# EAGLE library part SSW-140-02-S-T (library con-samtec)
THROUGH-HOLE .025" SQ POST SOCKET Source: Samtec SSW.pdf
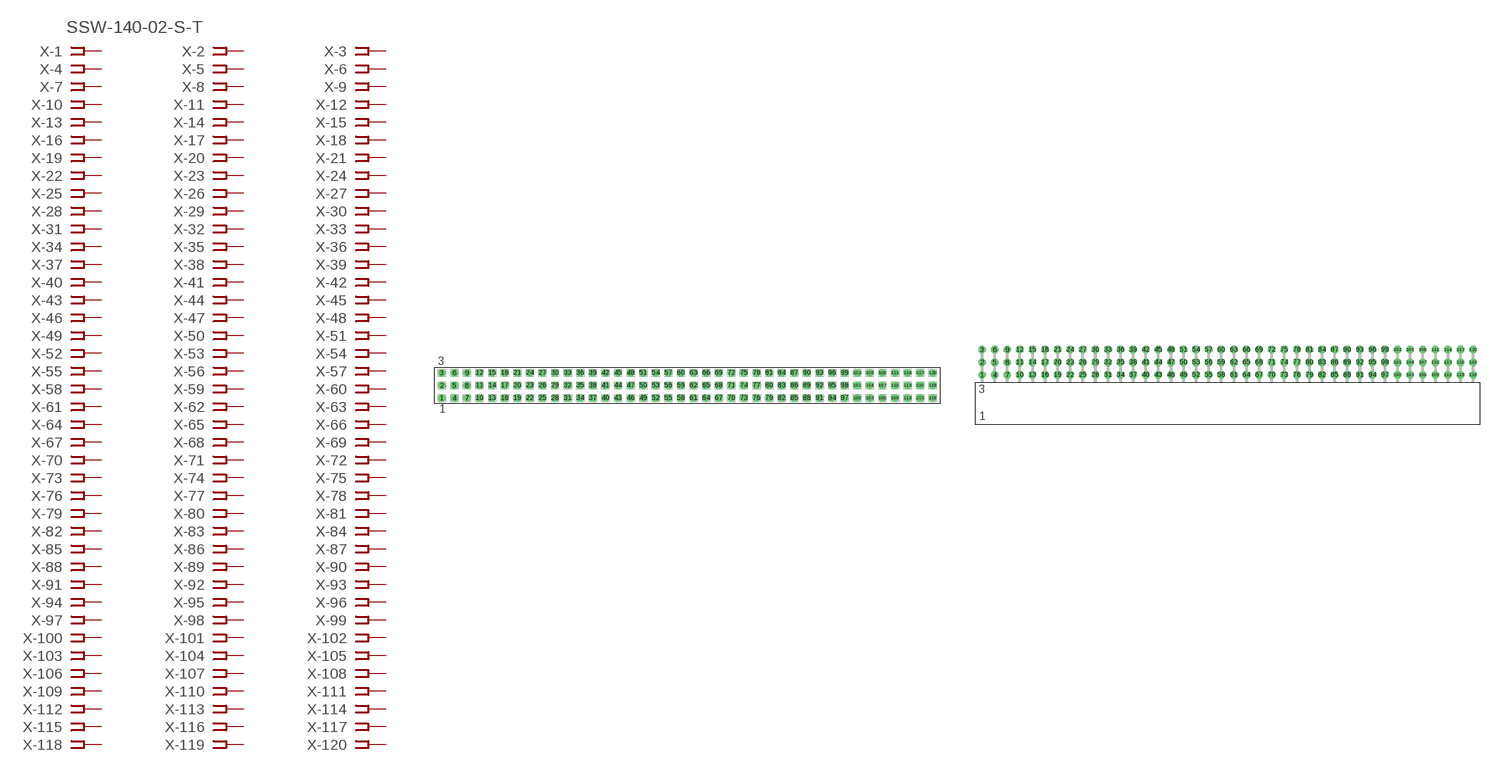
[diagram p16: symbol with the pads of SSW-140-02-S-T; footprints SSW-140-02-S-T, SSW-140-02-S-T-RA]

Designator prefix X; gates -1=FPINV -2=FPIN -3=FPIN -4=FPIN -5=FPIN -6=FPIN -7=FPIN -8=FPIN -9=FPIN -10=FPIN -11=FPIN -12=FPIN -13=FPIN -14=FPIN -15=FPIN -16=FPIN -17=FPIN -18=FPIN -19=FPIN -20=FPIN -21=FPIN -22=FPIN -23=FPIN -24=FPIN -25=FPIN -26=FPIN -27=FPIN -28=FPIN -29=FPIN -30=FPIN -31=FPIN -32=FPIN -33=FPIN -34=FPIN -35=FPIN -36=FPIN -37=FPIN -38=FPIN -39=FPIN -40=FPIN -41=FPIN -42=FPIN -43=FPIN -44=FPIN -45=FPIN -46=FPIN -47=FPIN -48=FPIN -49=FPIN -50=FPIN -51=FPIN -52=FPIN -53=FPIN -54=FPIN -55=FPIN -56=FPIN -57=FPIN -58=FPIN -59=FPIN -60=FPIN -61=FPIN -62=FPIN -63=FPIN -64=FPIN -65=FPIN -66=FPIN -67=FPIN -68=FPIN -69=FPIN -70=FPIN -71=FPIN -72=FPIN -73=FPIN -74=FPIN -75=FPIN -76=FPIN -77=FPIN -78=FPIN -79=FPIN -80=FPIN -81=FPIN -82=FPIN -83=FPIN -84=FPIN -85=FPIN -86=FPIN -87=FPIN -88=FPIN -89=FPIN -90=FPIN -91=FPIN -92=FPIN -93=FPIN -94=FPIN -95=FPIN -96=FPIN -97=FPIN -98=FPIN -99=FPIN -100=FPIN -101=FPIN -102=FPIN -103=FPIN -104=FPIN -105=FPIN -106=FPIN -107=FPIN -108=FPIN -109=FPIN -110=FPIN -111=FPIN -112=FPIN -113=FPIN -114=FPIN -115=FPIN -116=FPIN -117=FPIN -118=FPIN -119=FPIN -120=FPIN

## SSW-140-02-S-T  [SSW-140-02-S-T]
1  -1:1  pas
2  -2:1  pas
3  -3:1  pas
4  -4:1  pas
5  -5:1  pas
6  -6:1  pas
7  -7:1  pas
8  -8:1  pas
9  -9:1  pas
10  -10:1  pas
11  -11:1  pas
12  -12:1  pas
13  -13:1  pas
14  -14:1  pas
15  -15:1  pas
16  -16:1  pas
17  -17:1  pas
18  -18:1  pas
19  -19:1  pas
20  -20:1  pas
21  -21:1  pas
22  -22:1  pas
23  -23:1  pas
24  -24:1  pas
25  -25:1  pas
26  -26:1  pas
27  -27:1  pas
28  -28:1  pas
29  -29:1  pas
30  -30:1  pas
31  -31:1  pas
32  -32:1  pas
33  -33:1  pas
34  -34:1  pas
35  -35:1  pas
36  -36:1  pas
37  -37:1  pas
38  -38:1  pas
39  -39:1  pas
40  -40:1  pas
41  -41:1  pas
42  -42:1  pas
43  -43:1  pas
44  -44:1  pas
45  -45:1  pas
46  -46:1  pas
47  -47:1  pas
48  -48:1  pas
49  -49:1  pas
50  -50:1  pas
51  -51:1  pas
52  -52:1  pas
53  -53:1  pas
54  -54:1  pas
55  -55:1  pas
56  -56:1  pas
57  -57:1  pas
58  -58:1  pas
59  -59:1  pas
60  -60:1  pas
61  -61:1  pas
62  -62:1  pas
63  -63:1  pas
64  -64:1  pas
65  -65:1  pas
66  -66:1  pas
67  -67:1  pas
68  -68:1  pas
69  -69:1  pas
70  -70:1  pas
71  -71:1  pas
72  -72:1  pas
73  -73:1  pas
74  -74:1  pas
75  -75:1  pas
76  -76:1  pas
77  -77:1  pas
78  -78:1  pas
79  -79:1  pas
80  -80:1  pas
81  -81:1  pas
82  -82:1  pas
83  -83:1  pas
84  -84:1  pas
85  -85:1  pas
86  -86:1  pas
87  -87:1  pas
88  -88:1  pas
89  -89:1  pas
90  -90:1  pas
91  -91:1  pas
92  -92:1  pas
93  -93:1  pas
94  -94:1  pas
95  -95:1  pas
96  -96:1  pas
97  -97:1  pas
98  -98:1  pas
99  -99:1  pas
100  -100:1  pas
101  -101:1  pas
102  -102:1  pas
103  -103:1  pas
104  -104:1  pas
105  -105:1  pas
106  -106:1  pas
107  -107:1  pas
108  -108:1  pas
109  -109:1  pas
110  -110:1  pas
111  -111:1  pas
112  -112:1  pas
113  -113:1  pas
114  -114:1  pas
115  -115:1  pas
116  -116:1  pas
117  -117:1  pas
118  -118:1  pas
119  -119:1  pas
120  -120:1  pas

## SSW-140-02-S-TRA  [SSW-140-02-S-T-RA]
Pads as for SSW-140-02-S-T

## Footprint SSW-140-02-S-T (pad centres in mm)
THROUGH-HOLE .025" SQ POST SOCKET Source: Samtec SSW.pdf
drill 1 pad 1.5 octagon: 1 -49.53,-2.54; 2 -49.53,0; 3 -49.53,2.54; 4 -46.99,-2.54; 5 -46.99,0; 6 -46.99,2.54; 7 -44.45,-2.54; 8 -44.45,0; 9 -44.45,2.54; 10 -41.91,-2.54; 11 -41.91,0; 12 -41.91,2.54; 13 -39.37,-2.54; 14 -39.37,0; 15 -39.37,2.54; 16 -36.83,-2.54; 17 -36.83,0; 18 -36.83,2.54; 19 -34.29,-2.54; 20 -34.29,0; 21 -34.29,2.54; 22 -31.75,-2.54; 23 -31.75,0; 24 -31.75,2.54; 25 -29.21,-2.54; 26 -29.21,0; 27 -29.21,2.54; 28 -26.67,-2.54; 29 -26.67,0; 30 -26.67,2.54; 31 -24.13,-2.54; 32 -24.13,0; 33 -24.13,2.54; 34 -21.59,-2.54; 35 -21.59,0; 36 -21.59,2.54; 37 -19.05,-2.54; 38 -19.05,0; 39 -19.05,2.54; 40 -16.51,-2.54; 41 -16.51,0; 42 -16.51,2.54; 43 -13.97,-2.54; 44 -13.97,0; 45 -13.97,2.54; 46 -11.43,-2.54; 47 -11.43,0; 48 -11.43,2.54; 49 -8.89,-2.54; 50 -8.89,0; 51 -8.89,2.54; 52 -6.35,-2.54; 53 -6.35,0; 54 -6.35,2.54; 55 -3.81,-2.54; 56 -3.81,0; 57 -3.81,2.54; 58 -1.27,-2.54; 59 -1.27,0; 60 -1.27,2.54; 61 1.27,-2.54; 62 1.27,0; 63 1.27,2.54; 64 3.81,-2.54; 65 3.81,0; 66 3.81,2.54; 67 6.35,-2.54; 68 6.35,0; 69 6.35,2.54; 70 8.89,-2.54; 71 8.89,0; 72 8.89,2.54; 73 11.43,-2.54; 74 11.43,0; 75 11.43,2.54; 76 13.97,-2.54; 77 13.97,0; 78 13.97,2.54; 79 16.51,-2.54; 80 16.51,0; 81 16.51,2.54; 82 19.05,-2.54; 83 19.05,0; 84 19.05,2.54; 85 21.59,-2.54; 86 21.59,0; 87 21.59,2.54; 88 24.13,-2.54; 89 24.13,0; 90 24.13,2.54; 91 26.67,-2.54; 92 26.67,0; 93 26.67,2.54; 94 29.21,-2.54; 95 29.21,0; 96 29.21,2.54; 97 31.75,-2.54; 98 31.75,0; 99 31.75,2.54; 100 34.29,-2.54; 101 34.29,0; 102 34.29,2.54; 103 36.83,-2.54; 104 36.83,0; 105 36.83,2.54; 106 39.37,-2.54; 107 39.37,0; 108 39.37,2.54; 109 41.91,-2.54; 110 41.91,0; 111 41.91,2.54; 112 44.45,-2.54; 113 44.45,0; 114 44.45,2.54; 115 46.99,-2.54; 116 46.99,0; 117 46.99,2.54; 118 49.53,-2.54; 119 49.53,0; 120 49.53,2.54

## Footprint SSW-140-02-S-T-RA (pad centres in mm)
THROUGH-HOLE .025" SQ POST SOCKET Source: Samtec SSW.pdf
drill 1 pad 1.5 octagon: 1 -49.53,1.524; 2 -49.53,4.064; 3 -49.53,6.604; 4 -46.99,1.524; 5 -46.99,4.064; 6 -46.99,6.604; 7 -44.45,1.524; 8 -44.45,4.064; 9 -44.45,6.604; 10 -41.91,1.524; 11 -41.91,4.064; 12 -41.91,6.604; 13 -39.37,1.524; 14 -39.37,4.064; 15 -39.37,6.604; 16 -36.83,1.524; 17 -36.83,4.064; 18 -36.83,6.604; 19 -34.29,1.524; 20 -34.29,4.064; 21 -34.29,6.604; 22 -31.75,1.524; 23 -31.75,4.064; 24 -31.75,6.604; 25 -29.21,1.524; 26 -29.21,4.064; 27 -29.21,6.604; 28 -26.67,1.524; 29 -26.67,4.064; 30 -26.67,6.604; 31 -24.13,1.524; 32 -24.13,4.064; 33 -24.13,6.604; 34 -21.59,1.524; 35 -21.59,4.064; 36 -21.59,6.604; 37 -19.05,1.524; 38 -19.05,4.064; 39 -19.05,6.604; 40 -16.51,1.524; 41 -16.51,4.064; 42 -16.51,6.604; 43 -13.97,1.524; 44 -13.97,4.064; 45 -13.97,6.604; 46 -11.43,1.524; 47 -11.43,4.064; 48 -11.43,6.604; 49 -8.89,1.524; 50 -8.89,4.064; 51 -8.89,6.604; 52 -6.35,1.524; 53 -6.35,4.064; 54 -6.35,6.604; 55 -3.81,1.524; 56 -3.81,4.064; 57 -3.81,6.604; 58 -1.27,1.524; 59 -1.27,4.064; 60 -1.27,6.604; 61 1.27,1.524; 62 1.27,4.064; 63 1.27,6.604; 64 3.81,1.524; 65 3.81,4.064; 66 3.81,6.604; 67 6.35,1.524; 68 6.35,4.064; 69 6.35,6.604; 70 8.89,1.524; 71 8.89,4.064; 72 8.89,6.604; 73 11.43,1.524; 74 11.43,4.064; 75 11.43,6.604; 76 13.97,1.524; 77 13.97,4.064; 78 13.97,6.604; 79 16.51,1.524; 80 16.51,4.064; 81 16.51,6.604; 82 19.05,1.524; 83 19.05,4.064; 84 19.05,6.604; 85 21.59,1.524; 86 21.59,4.064; 87 21.59,6.604; 88 24.13,1.524; 89 24.13,4.064; 90 24.13,6.604; 91 26.67,1.524; 92 26.67,4.064; 93 26.67,6.604; 94 29.21,1.524; 95 29.21,4.064; 96 29.21,6.604; 97 31.75,1.524; 98 31.75,4.064; 99 31.75,6.604; 100 34.29,1.524; 101 34.29,4.064; 102 34.29,6.604; 103 36.83,1.524; 104 36.83,4.064; 105 36.83,6.604; 106 39.37,1.524; 107 39.37,4.064; 108 39.37,6.604; 109 41.91,1.524; 110 41.91,4.064; 111 41.91,6.604; 112 44.45,1.524; 113 44.45,4.064; 114 44.45,6.604; 115 46.99,1.524; 116 46.99,4.064; 117 46.99,6.604; 118 49.53,1.524; 119 49.53,4.064; 120 49.53,6.604